# Altium footprint library ДИОДЫ-MM.PcbLib: 53 footprints (part 1 of 4)
Each footprint in its own frame and in the unit in brackets; x right, y up, seen from the top. Pads: shape width x height; smd on the part's side, far side on the other; paste and mask are expansions set on the pad; w line width, h text height; cw(c..) or ccw(c..) is an arc to the next point about the centre after c.
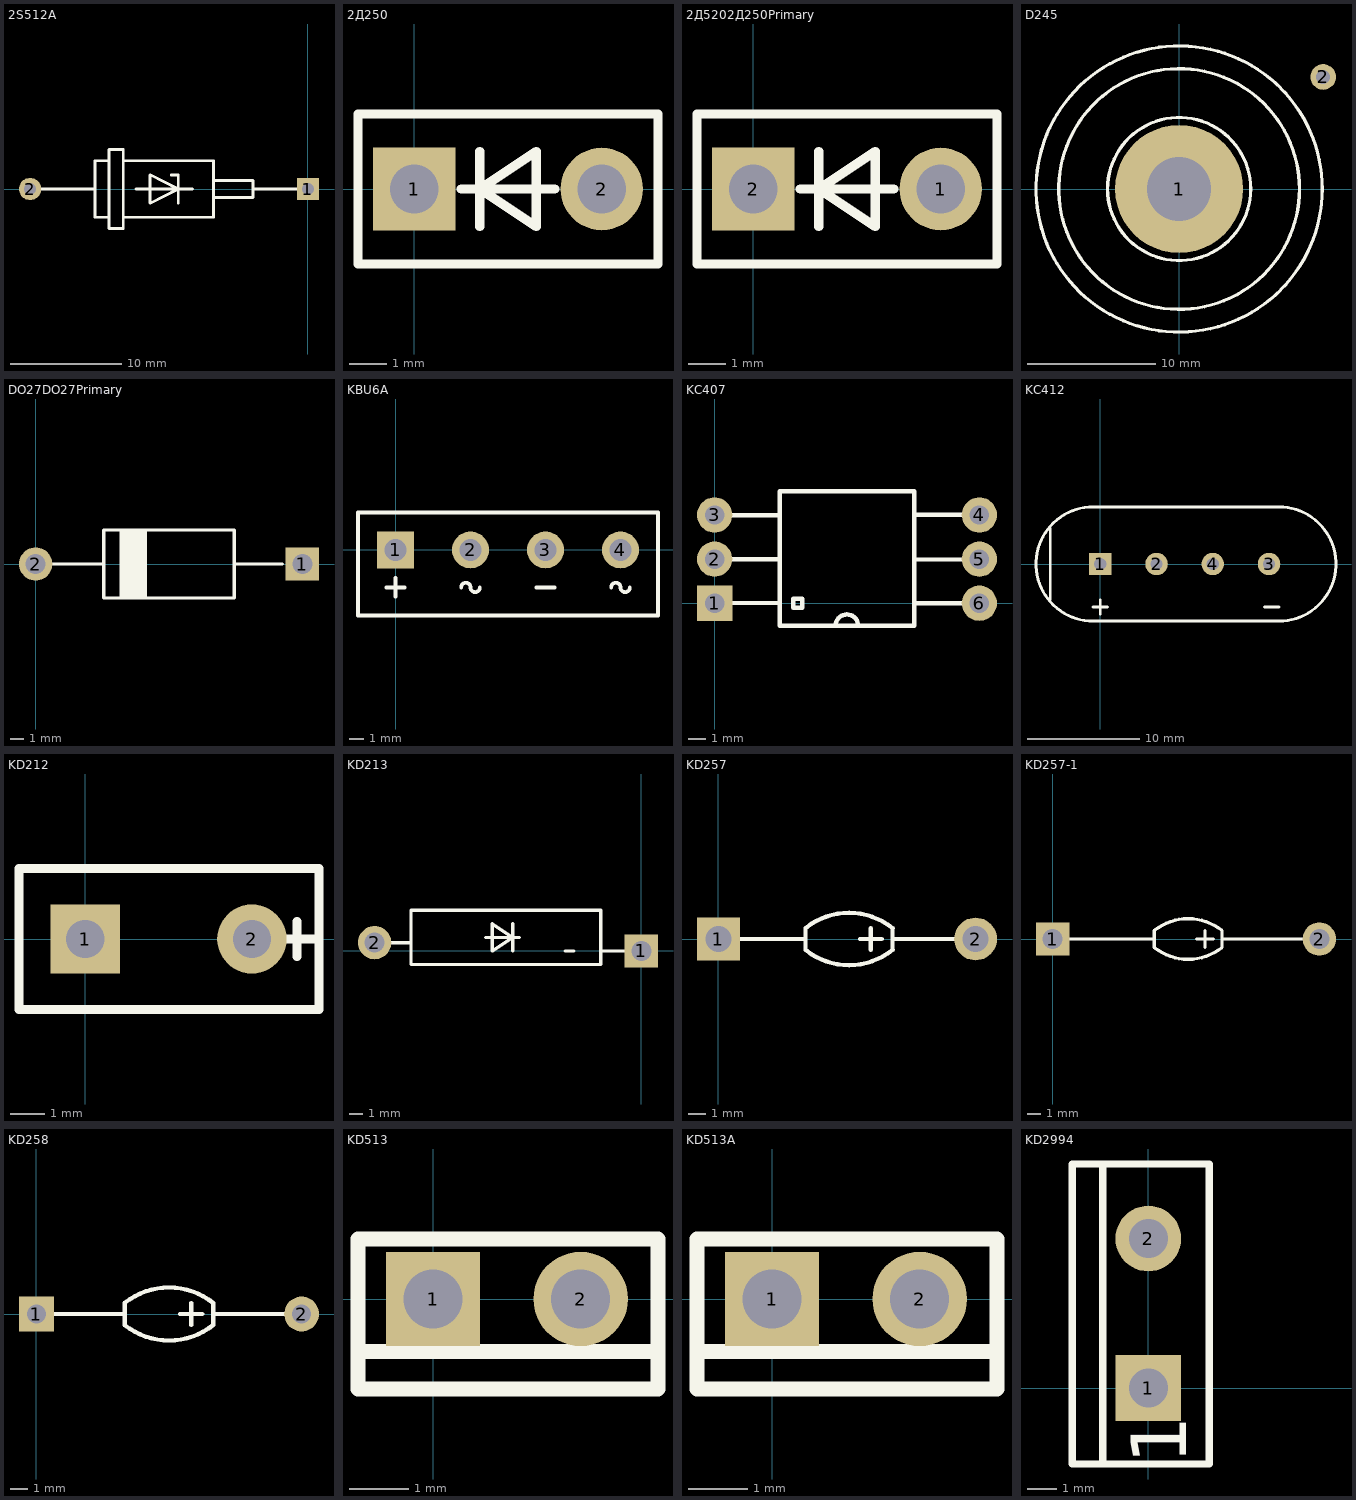
[diagram p0: the footprints below, top view; thin cyan lines are the x and y axes]

## 2S512A [mm]
pads (2):
  rect 2x2 hole 1.1: 1(0,0)
  round 2 hole 1.1: 2(-25,0)
Top Overlay:
  lines w0.25: -24.1,0 -19.158,0 ; -17.888,-2.54 -19.158,-2.54 -19.158,2.54 -17.888,2.54 ; -16.618,-2.54 -8.49,-2.54 -8.49,2.54 -16.618,2.54 ; -15.475,0 -10.395,0 ; -12.3,1.27 -11.665,1.27 -11.665,-1.27 ; -8.49,-0.762 -4.934,-0.762 -4.934,0.762 -8.49,0.762 ; -4.934,0 -0.95,0 ; -17.888,-3.556 -17.888,3.556 -16.618,3.556 -16.618,-3.556 -17.888,-3.556 ; -14.205,-1.27 -11.665,0 -14.205,1.27 -14.205,-1.27

## 2Д250 [mm]
pads (2):
  rect 2.2x2.2 hole 1.3: 1(0,0)
  round 2.2 hole 1.3: 2(5,0)
Top Overlay:
  lines w0.25: 1.25,0 3.75,0 ; 1.75,-1 1.75,1 ; -1.5,-2 6.5,-2 6.5,2 -1.5,2 -1.5,-2 ; 1.75,0 3.25,-1 3.25,1 1.75,0

## 2Д5202Д250Primary [mm]
pads (2):
  round 2.2 hole 1.3: 1(5,0)
  rect 2.2x2.2 hole 1.3: 2(0,0)
Top Overlay:
  lines w0.25: 1.25,0 3.75,0 ; 1.75,-1 1.75,1 ; -1.5,-2 6.5,-2 6.5,2 -1.5,2 -1.5,-2 ; 1.75,0 3.25,-1 3.25,1 1.75,0

## D245 [mm]
pads (2):
  round 10 hole 5: 1(0,0)
  round 2 hole 1.1: 2(11.25,8.75)
Top Overlay:
  circle w0.25: c0,0 r9.398
  circle w0.25: c0,0 r11.176
  circle w0.25: c0,0 r5.588
  lines w0.25: -1.016,-0.255 ccw(c0,0) 0.994,-0.331 ; -0.941,0.459 cw(c0,0) 1.016,0.253 ; 0.762,0.254 1.524,0.254 1.524,-0.254 -1.524,-0.254 -1.524,0.254 -1.016,0.254 1.016,0.254

## DO27DO27Primary [mm]
pads (2):
  rect 2.5x2.5 hole 1.5: 1(20,0)
  round 2.5 hole 1.5: 2(0,0)
Top Overlay:
  region: 6.317,2.54 6.317,-2.54 8.349,-2.54 8.349,2.54
  lines w0.25: 1.237,0 5.047,0 ; 14.953,0 18.509,0 ; 5.1,-2.55 14.9,-2.55 14.9,2.55 5.1,2.55 5.1,-2.55

## KBU6A [mm]
pads (4):
  rect 2.5x2.5 hole 1.5: 1(0,0)
  round 2.5 hole 1.5: 2(5.08,0) 3(10.16,0) 4(15.24,0)
Top Overlay:
  lines w0.25: -0.635,-2.54 0.635,-2.54 ; 0,-3.175 0,-1.905 ; 4.445,-2.54 cw(c4.763,-2.54) 5.08,-2.54 ccw(c5.397,-2.54) 5.715,-2.54 ; 9.525,-2.54 10.795,-2.54 ; 14.605,-2.54 cw(c14.922,-2.54) 15.24,-2.54 ccw(c15.557,-2.54) 15.875,-2.54 ; -2.54,-4.445 17.78,-4.445 17.78,2.54 -2.54,2.54 -2.54,-4.445

## KC407 [mm]
pads (6):
  rect 2x2 hole 1.1: 1(0,0)
  round 2 hole 1.1: 2(0,2.5) 3(0,5) 4(15,5) 5(15,2.5) 6(15,0)
Top Overlay:
  lines w0.25: 0.875,4.988 3.685,4.992 ; 0.887,0.012 3.685,0 ; 0.887,2.5 3.685,2.502 ; 6.86,-1.269 cw(c7.495,-1.27) 8.13,-1.27 ; 11.305,0 14.125,0 ; 11.305,2.478 14.15,2.475 ; 11.305,5.005 14.162,5.012 ; 3.685,-1.27 11.305,-1.27 11.305,6.35 3.685,6.35 3.685,-1.27 ; 4.447,-0.254 4.955,-0.254 4.955,0.254 4.447,0.254 4.447,-0.254

## KC412 [mm]
pads (4):
  rect 2x2 hole 1.1: 1(0,0)
  round 2 hole 1.1: 2(5,0) 3(15,0) 4(10,0)
Top Overlay:
  lines w0.25: -4.445,-3.175 -4.445,3.175 ; -0.635,-5.08 15.875,-5.08 ; -0.635,-3.81 0.635,-3.81 ; -0.635,5.08 15.875,5.08 ; -0.626,-5.08 cw(c-0.635,0) -0.626,5.08 ; 0,-4.445 0,-3.175 ; 14.605,-3.81 15.875,-3.81 ; 15.884,-5.08 ccw(c15.875,0) 15.884,5.08

## KD212 [mm]
pads (2):
  rect 2x2 hole 1.1: 1(0,0)
  round 2 hole 1.1: 2(4.8,0)
Top Overlay:
  lines w0.25: 5.588,0 6.604,0 ; 6.096,-0.508 6.096,0.508 ; -1.905,-2.032 6.731,-2.032 6.731,2.032 -1.905,2.032 -1.905,-2.032

## KD213 [mm]
pads (2):
  rect 2.5x2.5 hole 1.5: 1(0,0)
  round 2.5 hole 1.5: 2(-20,0.625)
Top Overlay:
  lines w0.25: -19.36,0.62 -17.292,0.618 ; -11.684,1.016 -9.144,1.016 ; -9.652,0 -9.652,2.032 ; -5.715,0 -5.08,0 ; -3.048,0 -0.71,0.02 ; -17.272,-1.016 -3.048,-1.016 -3.048,3.048 -17.272,3.048 -17.272,-1.016 ; -11.176,0 -9.652,1.016 -11.176,2.032 -11.176,0

## KD257 [mm]
pads (2):
  rect 2.5x2.5 hole 1.5: 1(0,0)
  round 2.5 hole 1.5: 2(15,0)
Top Overlay:
  lines w0.25: 0.42,0 4.445,0 5.08,0 ; 5.08,-0.635 5.08,0.635 ; 5.083,-0.638 ccw(c7.62,2.54) 10.162,-0.633 ; 5.083,0.638 cw(c7.62,-2.54) 10.162,0.633 ; 8.255,0 9.525,0 ; 8.89,-0.635 8.89,0.635 ; 10.16,-0.635 10.16,0.635 ; 10.16,0 14.54,0

## KD257-1 [mm]
pads (2):
  rect 2.5x2.5 hole 1.5: 1(0,0)
  round 2.5 hole 1.5: 2(20,0)
Top Overlay:
  lines w0.25: 0.7,0.01 6.985,0 7.62,0 ; 7.62,-0.635 7.62,0.635 ; 7.623,-0.638 ccw(c10.16,2.54) 12.702,-0.633 ; 7.623,0.638 cw(c10.16,-2.54) 12.702,0.633 ; 10.795,0 12.065,0 ; 11.43,-0.635 11.43,0.635 ; 12.7,-0.635 12.7,0.635 ; 12.7,0 19.47,0.01

## KD258 [mm]
pads (2):
  rect 2x2 hole 1.1: 1(0,0)
  round 2 hole 1.1: 2(15.24,0)
Top Overlay:
  lines w0.25: 0.54,0 4.445,0 5.08,0 ; 5.08,-0.635 5.08,0.635 ; 5.083,-0.638 ccw(c7.62,2.54) 10.162,-0.633 ; 5.083,0.638 cw(c7.62,-2.54) 10.162,0.633 ; 8.255,0 9.525,0 ; 8.89,-0.635 8.89,0.635 ; 10.16,-0.635 10.16,0.635 ; 10.16,0 14.7,0

## KD513 [mm]
pads (2):
  rect 1.6x1.6 hole 1: 1(0,0)
  round 1.6 hole 1: 2(2.5,0)
Top Overlay:
  lines w0.25: -1.27,-0.889 3.81,-0.889 ; -1.27,-1.524 3.81,-1.524 3.81,1.016 -1.27,1.016 -1.27,-1.524

## KD513A [mm]
pads (2):
  rect 1.6x1.6 hole 1: 1(0,0)
  round 1.6 hole 1: 2(2.5,0)
Top Overlay:
  lines w0.25: -1.27,-0.889 3.81,-0.889 ; -1.27,-1.524 3.81,-1.524 3.81,1.016 -1.27,1.016 -1.27,-1.524

## KD2994 [mm]
pads (2):
  rect 2.2x2.2 hole 1.3: 1(0,0)
  round 2.2 hole 1.3: 2(0,5)
Top Overlay:
  lines w0.25: -2.54,7.495 2.032,7.495 ; -2.538,7.462 -2.54,-2.54 2.032,-2.54 2.037,7.475 ; -1.525,7.475 -1.524,-2.54
  text "1" at 1.885,-2.54 h3.17